# Altium footprint library LCW78.PcbLib: 1 footprints
Each footprint in its own frame and in the unit in brackets; x right, y up, seen from the top. Pads: shape width x height; smd on the part's side, far side on the other; paste and mask are expansions set on the pad; w line width, h text height; cw(c..) or ccw(c..) is an arc to the next point about the centre after c.
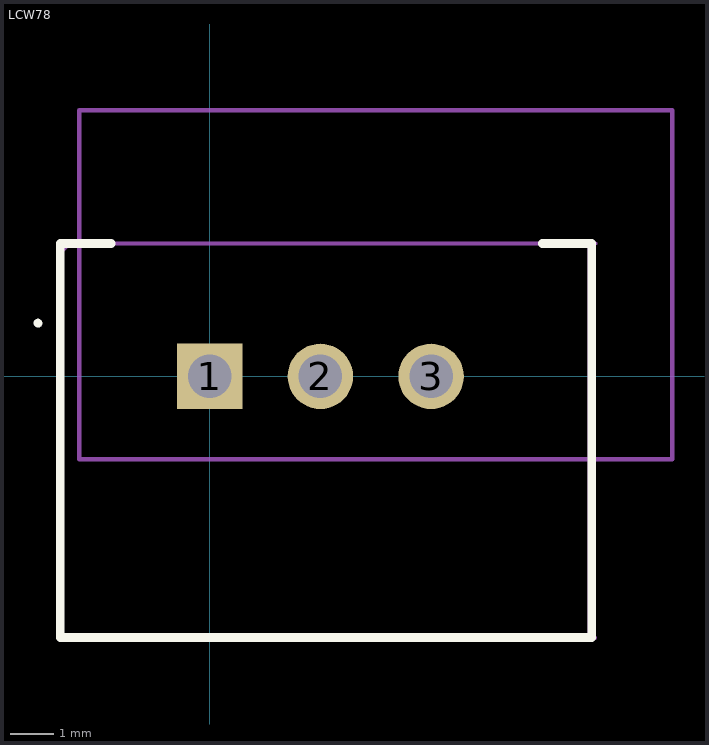
[diagram p0: the footprint, top view; thin cyan lines are the x and y axes]

## LCW78 [mm]
pads (3):
  rect 1.5x1.5 hole 1: 1(0,0)
  round 1.5 hole 1: 2(2.54,0) 3(5.08,0)
Top Overlay:
  lines w0.1: -3.937,1.17 ccw(c-3.937,1.22) -3.937,1.27 ; -3.937,1.173 cw(c-3.937,1.223) -3.937,1.273
  lines w0.2: -2.26,3.048 -3.429,3.048 -3.429,-5.992 8.763,-5.992 8.763,3.048 7.636,3.048
Mechanical 15:
  lines w0.1: 8.721,-5.992 8.721,3.048 ; 8.84,-5.992 -3.429,-5.992 -3.429,2.839 -3.22,3.048 8.848,3.048
Mechanical 20:
  lines w0.1: -2.99,-1.9 10.61,-1.9 10.61,6.1 -2.99,6.1 -2.99,-1.9
3D body: height 17.5, standoff 0, extent -3.429,-5.992 8.763,3.048
3D body: height 4, standoff -4, extent -0.762,-0.762 5.842,0.762